# EAGLE library part IS61WV102416ALL (library ga144)
IS61WV102416ALL SRAM 1.8V 20ns
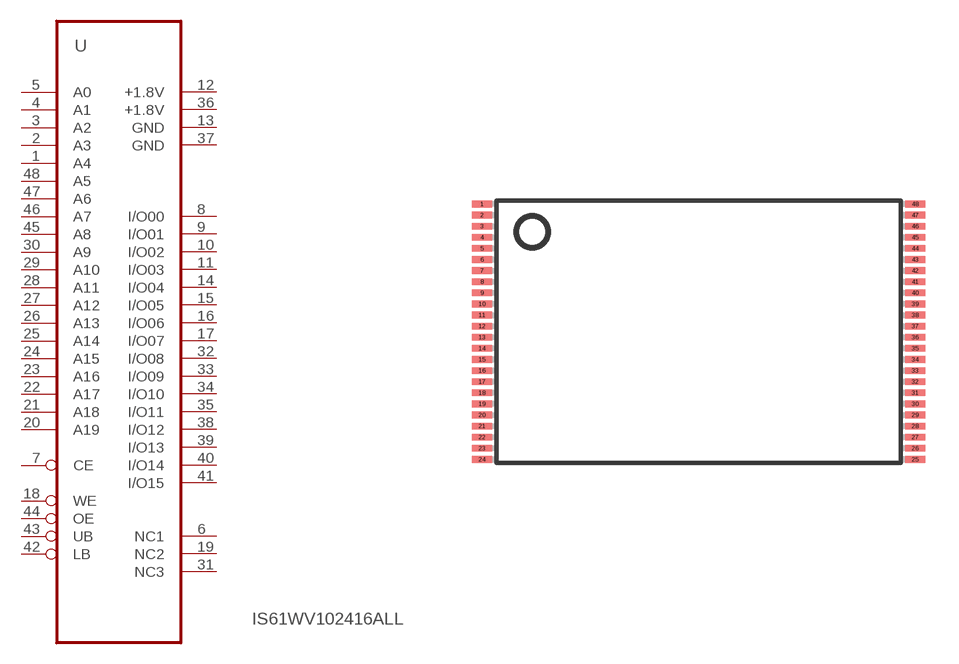
[diagram p3: symbol with the pads of TSOP-48; footprint TSOP-48]

Designator prefix -

## IS61WV102416ALL  [TSOP-48]
1  A4  in
2  A3  in
3  A2  in
4  A1  in
5  A0  in
6  NC1
7  CE  in
8  I/O00
9  I/O01
10  I/O02
11  I/O03
12  +1.8V  pwr
13  GND  pwr
14  I/O04
15  I/O05
16  I/O06
17  I/O07
18  WE  in
19  NC2
20  A19  in
21  A18  in
22  A17  in
23  A16  in
24  A15  in
25  A14  in
26  A13  in
27  A12  in
28  A11  in
29  A10  in
30  A9  in
31  NC3
32  I/O08
33  I/O09
34  I/O10
35  I/O11
36  +1.8V  pwr
37  GND  pwr
38  I/O12
39  I/O13
40  I/O14
41  I/O15
42  LB  pas
43  UB  pas
44  OE  in
45  A8  in
46  A7  in
47  A6  in
48  A5  in

## Footprint TSOP-48 (pad centres in mm)
smd 0.9 x 0.3: 1 -3.4,8.29; 2 -3.4,7.79; 3 -3.4,7.29; 4 -3.4,6.79; 5 -3.4,6.29; 6 -3.4,5.79; 7 -3.4,5.29; 8 -3.4,4.79; 9 -3.4,4.29; 10 -3.4,3.79; 11 -3.4,3.29; 12 -3.4,2.79; 13 -3.4,2.29; 14 -3.4,1.79; 15 -3.4,1.29; 16 -3.4,0.79; 17 -3.4,0.29; 18 -3.4,-0.21; 19 -3.4,-0.71; 20 -3.4,-1.21; 21 -3.4,-1.71; 22 -3.4,-2.21; 23 -3.4,-2.71; 24 -3.4,-3.21; 25 16.1,-3.21; 26 16.1,-2.71; 27 16.1,-2.21; 28 16.1,-1.71; 29 16.1,-1.21; 30 16.1,-0.71; 31 16.1,-0.21; 32 16.1,0.29; 33 16.1,0.79; 34 16.1,1.29; 35 16.1,1.79; 36 16.1,2.29; 37 16.1,2.79; 38 16.1,3.29; 39 16.1,3.79; 40 16.1,4.29; 41 16.1,4.79; 42 16.1,5.29; 43 16.1,5.79; 44 16.1,6.29; 45 16.1,6.79; 46 16.1,7.29; 47 16.1,7.79; 48 16.1,8.29